# Altium footprint library robopoly.PCBLIB: 53 footprints (part 3 of 4)
Each footprint in its own frame and in the unit in brackets; x right, y up, seen from the top. Pads: shape width x height; smd on the part's side, far side on the other; paste and mask are expansions set on the pad; w line width, h text height; cw(c..) or ccw(c..) is an arc to the next point about the centre after c.
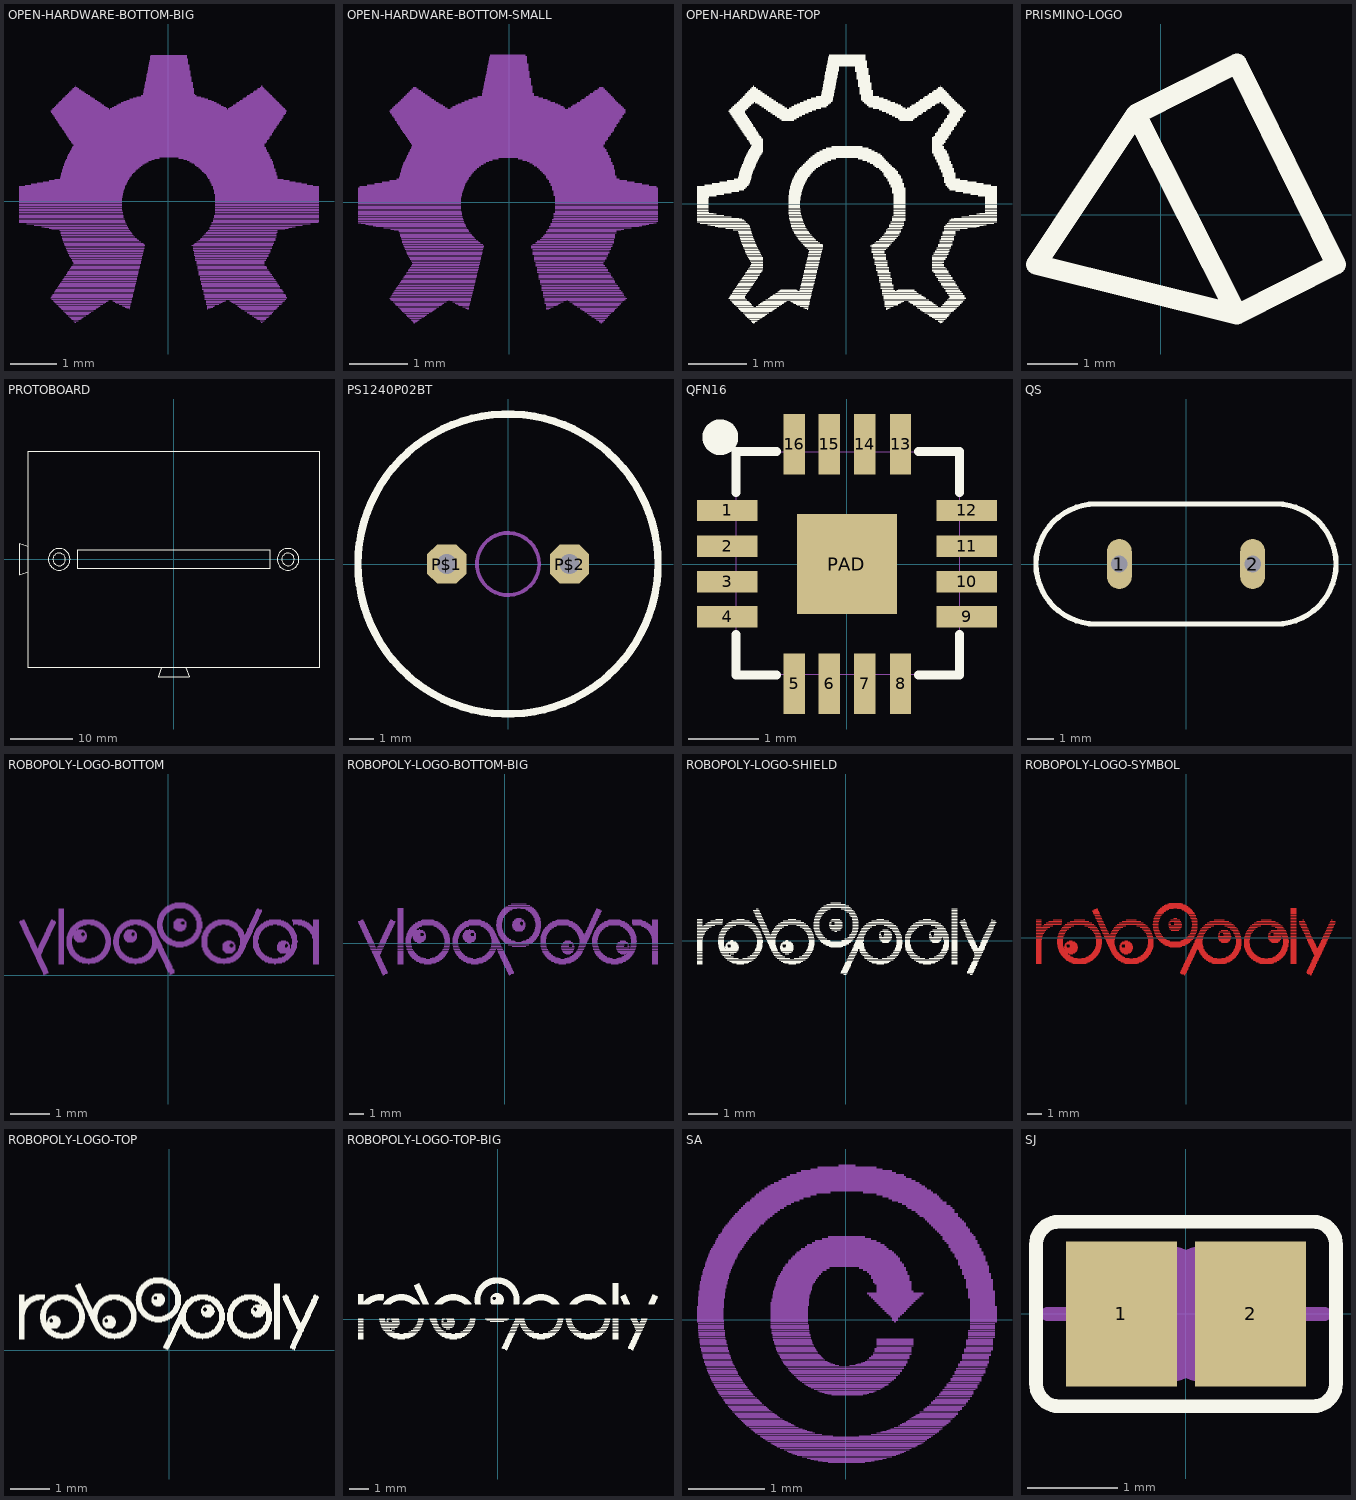
[diagram p2: the footprints below, top view; thin cyan lines are the x and y axes]

## OPEN-HARDWARE-BOTTOM-BIG [mil]
Bottom Overlay:
  drawing of 1687 lines, arcs and shapes, not listed

## OPEN-HARDWARE-BOTTOM-SMALL [mil]
Bottom Overlay:
  drawing of 1687 lines, arcs and shapes, not listed

## OPEN-HARDWARE-TOP [mil]
Top Overlay:
  drawing of 3189 lines, arcs and shapes, not listed

## PRISMINO-LOGO [mil]
Top Overlay:
  lines w16: -19.68,79 60,-78.74 ; -19.68,79 60,119 138,-39.37 60,-78.74 ; -19.68,79 -98.43,-39.37 60,-78.74

## PROTOBOARD [mil]
Top Overlay:
  circle w5: c-728.35,0 r69
  circle w5: c729,0 r69
  circle w5: c-728.35,0 r40
  circle w5: c729,0 r40
  lines w5: -925.2,-78.74 -925.2,-688.98 -78.74,-688.98 ; -925.2,-78.74 -925.2,79 ; -925.2,-78.74 -984.25,-98.43 -984.25,99 -925.2,79 ; -925.2,79 -925.2,689 926,689 926,-688.98 79,-688.98 ; -78.74,-688.98 79,-688.98 ; -78.74,-688.98 -98.43,-748.03 99,-748.03 79,-688.98 ; -610.24,-59.06 611,-59.06 611,60 -610.24,60 -610.24,-59.06

## PS1240P02BT [mil]
pads (2):
  oct 63x63 hole 32: P$1(-98.43,0) P$2(99,0)
Top Overlay:
  circle w12: c0,0 r241
Mechanical 16:
  circle w6: c0,0 r50

## QFN16 [mil]
pads (17):
  rect 34x12 smd: 1(-66.93,30) 2(-66.93,10) 3(-66.93,-9.84) 4(-66.93,-29.53) 9(67,-29.53) 10(67,-9.84) 11(67,10) 12(67,30)
  rect 12x34 smd: 5(-29.53,-66.93) 6(-9.84,-66.93) 7(10,-66.93) 8(30,-66.93) 13(30,67) 14(10,67) 15(-9.84,67) 16(-29.53,67)
  rect 56x56 smd: PAD(0,0)
Top Overlay:
  circle w12: c-70.87,71 r4
  lines w5: -62.01,-39.37 -62.01,-62.01 -39.37,-62.01 ; -62.01,40 -62.01,63 -39.37,63 ; 40,-62.01 63,-62.01 63,-39.37 ; 40,63 63,63 63,40
Top Paste:
  rectangle: -82.68,25 -51.18,35
  rectangle: -82.68,25 -51.18,35
  rectangle: -82.68,6 -51.18,15
  rectangle: -82.68,-14.37 -51.18,-5.32
  rectangle: -82.68,-34.06 -51.18,-25
  rectangle: 52,25 83,35
  rectangle: 52,6 83,15
  rectangle: 52,-14.37 83,-5.32
  rectangle: 52,-34.06 83,-25
  rectangle: 25,52 35,83
  rectangle: -14.37,52 -5.32,83
  rectangle: 6,52 15,83
  rectangle: -34.06,52 -25,83
  rectangle: 25,-82.68 35,-51.18
  rectangle: 6,-82.68 15,-51.18
  rectangle: -14.37,-82.68 -5.32,-51.18
  rectangle: -34.06,-82.68 -25,-51.18
  rectangle: -25.59,-25.59 -5.91,-5.91
  rectangle: 6,-25.59 26,-5.91
  rectangle: 6,6 26,26
  rectangle: -25.59,6 -5.91,26
Mechanical 16:
  lines w0: -62.01,-62.01 63,-62.01 63,63 -62.01,63 -62.01,-62.01

## QS [mil]
pads (2):
  oval 37.5x75 hole 25: 1(-100,0) 2(100,0)
Top Overlay:
  lines w8: -135,-90 135,-90 ccw(c135,0) 135,90 -135,90 ccw(c-135,0) -135,-90

## ROBOPOLY-LOGO-BOTTOM [mil]
Bottom Overlay:
  drawing of 4769 lines, arcs and shapes, not listed

## ROBOPOLY-LOGO-BOTTOM-BIG [mil]
Bottom Overlay:
  drawing of 4769 lines, arcs and shapes, not listed

## ROBOPOLY-LOGO-SHIELD [mil]
Top Overlay:
  drawing of 4769 lines, arcs and shapes, not listed

## ROBOPOLY-LOGO-SYMBOL [mil]
Top Layer:
  drawing of 4769 lines, arcs and shapes, not listed

## ROBOPOLY-LOGO-TOP [mil]
Top Overlay:
  drawing of 4769 lines, arcs and shapes, not listed

## ROBOPOLY-LOGO-TOP-BIG [mil]
Top Overlay:
  drawing of 4769 lines, arcs and shapes, not listed

## SA [mil]
Bottom Overlay:
  drawing of 1011 lines, arcs and shapes, not listed

## SJ [mil]
pads (2):
  rect 48x63 smd: 1(-28,0) 2(28,0)
Top Overlay:
  lines w6: -65,-30 ccw(c-55,-30) -55,-40 55,-40 ccw(c55,-30) 65,-30 65,30 ccw(c55,30) 55,40 -55,40 ccw(c-55,30) -65,30 -65,-30
Top Solder:
  rectangle: -3,-36 3,36
Mechanical 16:
  lines w6: -60,0 -40,0 ; 40,0 60,0
  lines w50: -10,-5 cw(c-10,0) -10,5 ; 10,-5 ccw(c10,0) 10,5